# Altium footprint library KF terminal block.PcbLib: 57 footprints (part 1 of 4)
Each footprint in its own frame and in the unit in brackets; x right, y up, seen from the top. Pads: shape width x height; smd on the part's side, far side on the other; paste and mask are expansions set on the pad; w line width, h text height; cw(c..) or ccw(c..) is an arc to the next point about the centre after c.
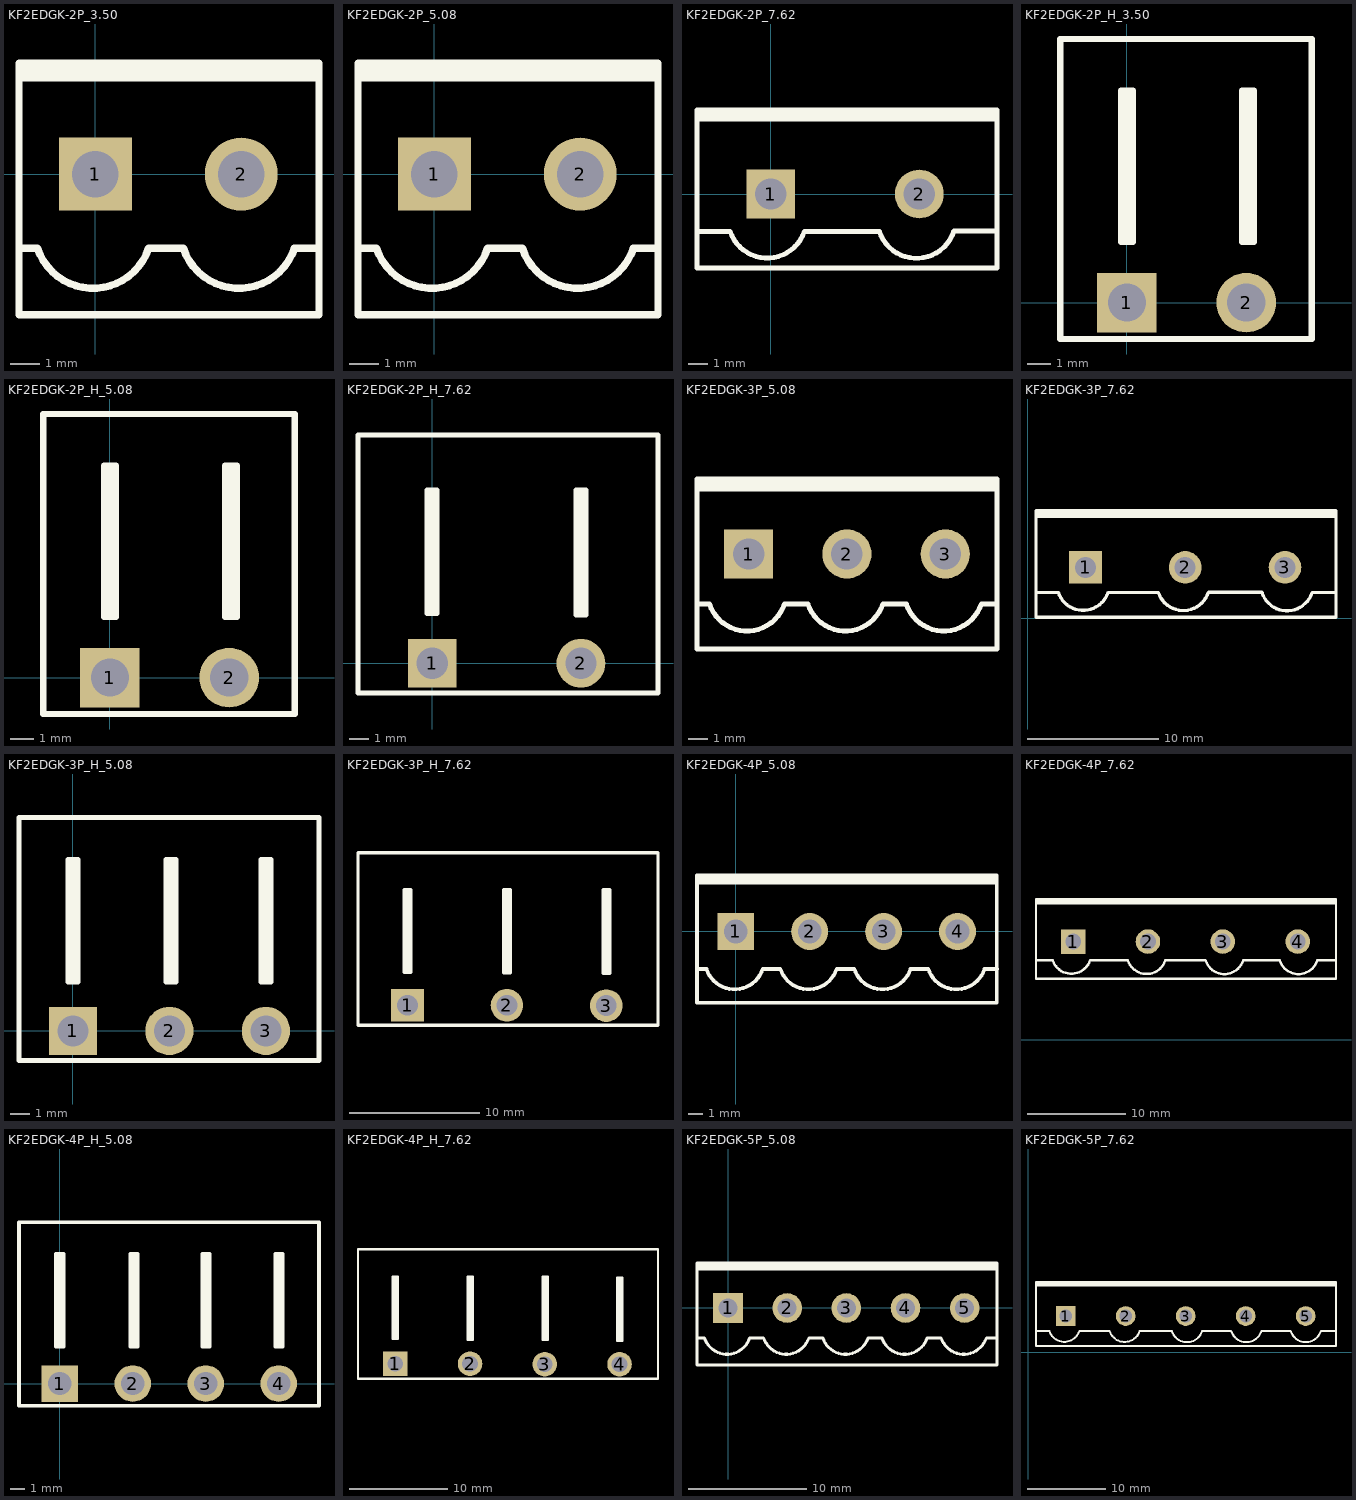
[diagram p0: the footprints below, top view; thin cyan lines are the x and y axes]

## KF2EDGK-2P_3.50 [mm] "Ö±ï¿½Ð²ï¿½ï¿½Ê½ï¿½ï¿½ï¿½ï¿½"
pads (2):
  rect 2.5x2.5 hole 1.6: 1(0,0)
  round 2.5 hole 1.6: 2(5,0)
Top Overlay:
  lines w0.254: -2.62,-2.54 -1.985,-2.54 ccw(c-0.08,-1.905) 1.825,-2.54 3.015,-2.54 ccw(c4.92,-1.905) 6.825,-2.54 7.667,-2.54 ; -2.62,3.302 7.667,3.302 ; -2.62,3.556 7.667,3.556 ; -2.62,-4.826 -2.62,3.81 7.667,3.81 7.667,-4.826 -2.62,-4.826
3D body "KF2EDGV-Y-3.50-1P.STEP": height 9.35, standoff -2.45, extent 0.125,-3.55 3.625,3.55
3D body "KF2EDGV-Y-3.50-1P.STEP": height 9.35, standoff -2.45, extent 3.625,-3.6 7.125,3.5

## KF2EDGK-2P_5.08 [mm] "Ö±ï¿½Ð²ï¿½ï¿½Ê½ï¿½ï¿½ï¿½ï¿½"
pads (2):
  rect 2.5x2.5 hole 1.6: 1(0,0)
  round 2.5 hole 1.6: 2(5,0)
Top Overlay:
  lines w0.254: -2.62,-2.54 -1.985,-2.54 ccw(c-0.08,-1.905) 1.825,-2.54 3.015,-2.54 ccw(c4.92,-1.905) 6.825,-2.54 7.667,-2.54 ; -2.62,3.302 7.667,3.302 ; -2.62,3.556 7.667,3.556 ; -2.62,-4.826 -2.62,3.81 7.667,3.81 7.667,-4.826 -2.62,-4.826
3D body "KF2EDGK-1P.STEP": height 11.25, standoff -2.95, extent -2.54,-4.75 2.54,3.75
3D body "KF2EDGK-1P.STEP": height 11.25, standoff -2.95, extent 2.46,-4.75 7.54,3.75

## KF2EDGK-2P_7.62 [mm] "Ö±ï¿½Ð²ï¿½ï¿½Ê½ï¿½ï¿½ï¿½ï¿½"
pads (2):
  rect 2.5x2.5 hole 1.6: 1(0,0)
  round 2.5 hole 1.6: 2(7.62,0)
Top Overlay:
  lines w0.254: -3.785,4.089 11.455,4.089 ; -3.759,-1.914 -2.087,-1.914 ccw(c-0.182,-1.279) 1.723,-1.914 ; -3.708,3.861 11.582,3.861 ; 1.749,-1.914 5.55,-1.925 ; 5.575,-1.925 ccw(c7.48,-1.29) 9.385,-1.925 ; 9.4,-1.9 11.6,-1.9 ; -3.785,-3.8 -3.785,4.318 11.608,4.318 11.608,-3.8 -3.785,-3.8
3D body "KF2EDGK-1P.STEP": height 12.3, standoff -2.8, extent 3.861,-3.721 11.481,4.229
3D body "KF2EDGK-1P.STEP": height 12.3, standoff -2.8, extent -3.759,-3.708 3.861,4.242

## KF2EDGK-2P_H_3.50 [mm] "ï¿½ï¿½Ç²ï¿½ï¿½Ê½ï¿½ï¿½ï¿½ï¿½"
pads (2):
  rect 2.5x2.5 hole 1.6: 1(0,0)
  round 2.5 hole 1.6: 2(5,0)
Top Overlay:
  lines w0.254: 0,2.54 0,8.89 ; 5.08,2.54 5.08,8.89 ; 0,8.89 -0.254,8.89 -0.254,2.54 0.254,2.54 0.254,8.89 0,8.89 ; 5.08,8.89 4.826,8.89 4.826,2.54 5.334,2.54 5.334,8.89 5.08,8.89 ; -2.794,-1.524 -2.794,11.049 7.747,11.049 7.747,-1.524 -2.794,-1.524
3D body "KF2EDGR-Y-3.50-1P.STEP": height 6.59, standoff -4.01, extent -0.55,-1.125 2.95,8.175
3D body "KF2EDGR-Y-3.50-1P.STEP": height 6.59, standoff -4.01, extent 2.975,-1.125 6.475,8.175

## KF2EDGK-2P_H_5.08 [mm] "ï¿½ï¿½Ç²ï¿½ï¿½Ê½ï¿½ï¿½ï¿½ï¿½"
pads (2):
  rect 2.5x2.5 hole 1.6: 1(0,0)
  round 2.5 hole 1.6: 2(5,0)
Top Overlay:
  lines w0.254: 0,2.54 0,8.89 ; 5.08,2.54 5.08,8.89 ; 0,8.89 0.254,8.89 0.254,2.54 -0.254,2.54 -0.254,8.89 0,8.89 ; 5.08,8.89 5.334,8.89 5.334,2.54 4.826,2.54 4.826,8.89 5.08,8.89 ; -2.794,-1.524 7.747,-1.524 7.747,11.049 -2.794,11.049 -2.794,-1.524
3D body "KF2EDGK-1P_H.STEP": height 8.5, standoff -3, extent 2.46,-0.5 7.54,10.8
3D body "KF2EDGK-1P_H.STEP": height 8.5, standoff -3, extent -2.54,-0.5 2.54,10.8

## KF2EDGK-2P_H_7.62 [mm] "ï¿½ï¿½Ç²ï¿½ï¿½Ê½ï¿½ï¿½ï¿½ï¿½"
pads (2):
  rect 2.5x2.5 hole 1.6: 1(0,0)
  round 2.5 hole 1.6: 2(7.625,0)
Top Overlay:
  lines w0.254: 0,2.54 0,8.89 ; 7.63,2.54 7.63,8.89 ; 0,8.89 -0.254,8.89 -0.254,2.54 0.254,2.54 0.254,8.89 0,8.89 ; 7.376,8.89 7.63,8.89 ; 7.376,8.89 7.884,8.89 ; 7.376,8.89 7.376,2.475 7.884,2.475 7.884,8.89 ; 7.63,8.89 7.884,8.89 ; -3.8,-1.524 -3.8,11.7 11.575,11.7 11.575,-1.524 -3.8,-1.524
3D body "KF2EDGK-1P-H.STEP": height 8.04, standoff -2.91, extent 3.849,-0.613 11.469,11.587
3D body "KF2EDGK-1P-H.STEP": height 8.04, standoff -2.91, extent -3.782,-0.613 3.838,11.587

## KF2EDGK-3P_5.08 [mm] "Ö±ï¿½Ð²ï¿½ï¿½Ê½ï¿½ï¿½ï¿½ï¿½"
pads (3):
  rect 2.5x2.5 hole 1.6: 1(413.85,477.95)
  round 2.5 hole 1.6: 2(418.85,477.95) 3(423.85,477.95)
Top Overlay:
  lines w0.254: 411.23,475.41 411.865,475.41 ccw(c413.77,476.045) 415.675,475.41 416.865,475.41 ccw(c418.77,476.045) 420.675,475.41 421.865,475.41 ccw(c423.77,476.045) 425.675,475.41 426.425,475.41 ; 411.23,481.252 426.425,481.252 ; 411.23,481.506 426.425,481.506 ; 411.23,473.124 426.475,473.124 426.475,481.76 411.23,481.76 411.23,473.124
3D body "KF2EDGK-1P.STEP": height 11.25, standoff -2.95, extent 411.31,473.2 416.39,481.7
3D body "KF2EDGK-1P.STEP": height 11.25, standoff -2.95, extent 416.31,473.2 421.39,481.7
3D body "KF2EDGK-1P.STEP": height 11.25, standoff -2.95, extent 421.31,473.2 426.39,481.7

## KF2EDGK-3P_7.62 [mm] "Ö±ï¿½Ð²ï¿½ï¿½Ê½ï¿½ï¿½ï¿½ï¿½"
pads (3):
  rect 2.5x2.5 hole 1.6: 1(4.425,3.875)
  round 2.5 hole 1.6: 2(12.045,3.875) 3(19.675,3.875)
Top Overlay:
  lines w0.254: 0.666,1.961 2.338,1.961 ccw(c4.243,2.596) 6.148,1.961 ; 0.675,7.761 23.525,7.761 ; 0.675,7.989 23.455,7.989 ; 6.174,1.961 9.975,1.95 ; 10,1.95 ccw(c11.905,2.585) 13.81,1.95 ; 13.825,1.975 16.025,1.975 ; 14.378,1.97 17.9,1.97 ; 17.925,1.925 ccw(c19.83,2.56) 21.735,1.925 ; 21.749,1.961 23.55,1.956 ; 0.64,0.075 0.64,8.193 23.575,8.193 23.575,0.075 0.64,0.075
3D body "KF2EDGK-1P.STEP": height 12.3, standoff -2.8, extent 8.286,0.154 15.906,8.104
3D body "KF2EDGK-1P.STEP": height 12.3, standoff -2.8, extent 0.666,0.167 8.286,8.117
3D body "KF2EDGK-1P.STEP": height 12.3, standoff -2.8, extent 15.9,0.154 23.52,8.104

## KF2EDGK-3P_H_5.08 [mm] "ï¿½ï¿½Ç²ï¿½ï¿½Ê½ï¿½ï¿½ï¿½ï¿½"
pads (3):
  rect 2.5x2.5 hole 1.6: 1(0,0)
  round 2.5 hole 1.6: 2(5,0) 3(10,0)
Top Overlay:
  lines w0.254: 0,2.54 0,8.89 ; 5.08,2.54 5.08,8.89 ; 10,2.54 10,8.89 ; 0,8.89 0.254,8.89 0.254,2.54 -0.254,2.54 -0.254,8.89 0,8.89 ; 5.08,8.89 5.334,8.89 5.334,2.54 4.826,2.54 4.826,8.89 5.08,8.89 ; 10,8.89 9.746,8.89 9.746,2.54 10.254,2.54 10.254,8.89 10,8.89 ; -2.794,-1.524 12.75,-1.524 12.75,11.049 -2.794,11.049 -2.794,-1.524
3D body "KF2EDGK-1P_H.STEP": height 8.5, standoff -3, extent 7.46,-0.5 12.54,10.8
3D body "KF2EDGK-1P_H.STEP": height 8.5, standoff -3, extent 2.46,-0.5 7.54,10.8
3D body "KF2EDGK-1P_H.STEP": height 8.5, standoff -3, extent -2.54,-0.5 2.54,10.8

## KF2EDGK-3P_H_7.62 [mm] "ï¿½ï¿½Ç²ï¿½ï¿½Ê½ï¿½ï¿½ï¿½ï¿½"
pads (3):
  rect 2.5x2.5 hole 1.6: 1(20.982,13.041)
  round 2.5 hole 1.6: 2(28.607,13.041) 3(36.232,13.016)
Top Overlay:
  lines w0.254: 20.982,15.581 20.982,21.931 ; 28.612,15.581 28.612,21.931 ; 36.257,15.559 36.257,21.909 ; 20.982,21.931 20.728,21.931 20.728,15.581 21.236,15.581 21.236,21.931 20.982,21.931 ; 28.358,21.931 28.612,21.931 ; 28.358,21.931 28.866,21.931 ; 28.358,21.931 28.358,15.516 28.866,15.516 28.866,21.931 ; 28.612,21.931 28.866,21.931 ; 36.003,21.909 36.257,21.909 ; 36.003,21.909 36.511,21.909 ; 36.003,21.909 36.003,15.494 36.511,15.494 36.511,21.909 ; 36.257,21.909 36.511,21.909 ; 17.182,11.517 17.182,24.741 40.2,24.741 40.2,11.517 17.182,11.517
3D body "KF2EDGK-1P-H.STEP": height 8.04, standoff -2.91, extent 32.447,12.417 40.067,24.617
3D body "KF2EDGK-1P-H.STEP": height 8.04, standoff -2.91, extent 17.19,12.418 24.81,24.618
3D body "KF2EDGK-1P-H.STEP": height 8.04, standoff -2.91, extent 24.822,12.417 32.442,24.617

## KF2EDGK-4P_5.08 [mm] "Ö±ï¿½Ð²ï¿½ï¿½Ê½ï¿½ï¿½ï¿½ï¿½"
pads (4):
  rect 2.5x2.5 hole 1.6: 1(0,0)
  round 2.5 hole 1.6: 2(5,0) 3(10,0) 4(15,0)
Top Overlay:
  lines w0.254: -2.62,-2.54 -1.985,-2.54 ccw(c-0.08,-1.905) 1.825,-2.54 3.015,-2.54 ccw(c4.92,-1.905) 6.825,-2.54 8.015,-2.54 ccw(c9.92,-1.905) 11.825,-2.54 13.015,-2.54 ccw(c14.92,-1.905) 16.825,-2.54 17.667,-2.54 ; -2.62,3.302 17.653,3.302 ; -2.62,3.556 17.653,3.556 ; -2.62,-4.826 17.653,-4.826 17.653,3.81 -2.62,3.81 -2.62,-4.826
3D body "KF2EDGK-1P.STEP": height 11.25, standoff -2.95, extent -2.54,-4.75 2.54,3.75
3D body "KF2EDGK-1P.STEP": height 11.25, standoff -2.95, extent 2.46,-4.75 7.54,3.75
3D body "KF2EDGK-1P.STEP": height 11.25, standoff -2.95, extent 7.46,-4.75 12.54,3.75
3D body "KF2EDGK-1P.STEP": height 11.25, standoff -2.95, extent 12.46,-4.75 17.54,3.75

## KF2EDGK-4P_7.62 [mm] "Ö±ï¿½Ð²ï¿½ï¿½Ê½ï¿½ï¿½ï¿½ï¿½"
pads (4):
  rect 2.5x2.5 hole 1.6: 1(15.075,10)
  round 2.5 hole 1.6: 2(22.695,10) 3(30.325,10) 4(37.95,10)
Top Overlay:
  lines w0.254: 11.316,8.086 12.988,8.086 ccw(c14.893,8.721) 16.798,8.086 ; 11.325,13.886 41.75,13.886 ; 11.325,14.114 41.825,14.114 ; 16.824,8.086 20.625,8.075 ; 20.65,8.075 ccw(c22.555,8.71) 24.46,8.075 ; 24.475,8.1 26.675,8.1 ; 25.028,8.095 28.55,8.095 ; 28.575,8.05 ccw(c30.48,8.685) 32.385,8.05 ; 32.399,8.086 36.1,8.075 ; 36.125,8.05 ccw(c38.03,8.685) 39.935,8.05 ; 39.945,8.085 41.75,8.08 ; 11.29,6.2 41.85,6.2 41.85,14.318 11.29,14.318 11.29,6.2
3D body "KF2EDGK-1P.STEP": height 12.3, standoff -2.8, extent 34.2,6.3 41.82,14.25
3D body "KF2EDGK-1P.STEP": height 12.3, standoff -2.8, extent 26.55,6.279 34.17,14.229
3D body "KF2EDGK-1P.STEP": height 12.3, standoff -2.8, extent 11.316,6.292 18.936,14.242
3D body "KF2EDGK-1P.STEP": height 12.3, standoff -2.8, extent 18.936,6.279 26.556,14.229

## KF2EDGK-4P_H_5.08 [mm] "ï¿½ï¿½Ç²ï¿½ï¿½Ê½ï¿½ï¿½ï¿½ï¿½"
pads (4):
  rect 2.5x2.5 hole 1.6: 1(0,0)
  round 2.5 hole 1.6: 2(5,0) 3(10,0) 4(15,0)
Top Overlay:
  lines w0.254: 0,2.54 0,8.89 ; 5.08,2.54 5.08,8.89 ; 10,2.54 10,8.89 ; 15,2.54 15,8.89 ; 0,8.89 -0.254,8.89 -0.254,2.54 0.254,2.54 0.254,8.89 0,8.89 ; 5.08,8.89 4.826,8.89 4.826,2.54 5.334,2.54 5.334,8.89 5.08,8.89 ; 10,8.89 10.254,8.89 10.254,2.54 9.746,2.54 9.746,8.89 10,8.89 ; 15,8.89 14.746,8.89 14.746,2.54 15.254,2.54 15.254,8.89 15,8.89 ; -2.794,-1.524 -2.794,11.049 17.75,11.049 17.75,-1.524 -2.794,-1.524
3D body "KF2EDGK-1P_H.STEP": height 8.5, standoff -3, extent -2.54,-0.5 2.54,10.8
3D body "KF2EDGK-1P_H.STEP": height 8.5, standoff -3, extent 2.46,-0.5 7.54,10.8
3D body "KF2EDGK-1P_H.STEP": height 8.5, standoff -3, extent 7.46,-0.5 12.54,10.8
3D body "KF2EDGK-1P_H.STEP": height 8.5, standoff -3, extent 12.46,-0.5 17.54,10.8

## KF2EDGK-4P_H_7.62 [mm] "ï¿½ï¿½Ç²ï¿½ï¿½Ê½ï¿½ï¿½ï¿½ï¿½"
pads (4):
  rect 2.5x2.5 hole 1.6: 1(6.252,16.611)
  round 2.5 hole 1.6: 2(13.877,16.611) 3(21.502,16.586) 4(29.127,16.586)
Top Overlay:
  lines w0.254: 6.252,19.151 6.252,25.501 ; 13.882,19.151 13.882,25.501 ; 21.527,19.129 21.527,25.479 ; 29.127,19.054 29.127,25.404 ; 6.252,25.501 6.506,25.501 6.506,19.151 5.998,19.151 5.998,25.501 6.252,25.501 ; 13.628,25.501 13.628,19.086 14.136,19.086 14.136,25.501 ; 13.628,25.501 14.136,25.501 ; 13.628,25.501 13.882,25.501 ; 13.882,25.501 14.136,25.501 ; 21.273,25.479 21.273,19.064 21.781,19.064 21.781,25.479 ; 21.273,25.479 21.781,25.479 ; 21.273,25.479 21.527,25.479 ; 21.527,25.479 21.781,25.479 ; 28.873,25.404 28.873,18.989 29.381,18.989 29.381,25.404 ; 28.873,25.404 29.381,25.404 ; 28.873,25.404 29.127,25.404 ; 29.127,25.404 29.381,25.404 ; 2.452,15.087 33.05,15.087 33.05,28.311 2.452,28.311 2.452,15.087
3D body "KF2EDGK-1P-H.STEP": height 8.04, standoff -2.91, extent 25.296,15.981 32.916,28.181
3D body "KF2EDGK-1P-H.STEP": height 8.04, standoff -2.91, extent 17.671,15.981 25.291,28.181
3D body "KF2EDGK-1P-H.STEP": height 8.04, standoff -2.91, extent 2.415,15.981 10.035,28.181
3D body "KF2EDGK-1P-H.STEP": height 8.04, standoff -2.91, extent 10.046,15.981 17.666,28.181

## KF2EDGK-5P_5.08 [mm] "Ö±ï¿½Ð²ï¿½ï¿½Ê½ï¿½ï¿½ï¿½ï¿½"
pads (5):
  rect 2.5x2.5 hole 1.6: 1(0,0)
  round 2.5 hole 1.6: 2(5,0) 3(10,0) 4(15,0) 5(20,0)
Top Overlay:
  lines w0.254: -2.62,-2.54 -1.985,-2.54 ccw(c-0.08,-1.905) 1.825,-2.54 3.015,-2.54 ccw(c4.92,-1.905) 6.825,-2.54 8.015,-2.54 ccw(c9.92,-1.905) 11.825,-2.54 13.015,-2.54 ccw(c14.92,-1.905) 16.825,-2.54 18.015,-2.54 ccw(c19.92,-1.905) 21.825,-2.54 22.667,-2.54 ; -2.62,3.302 22.606,3.302 ; -2.62,3.556 22.733,3.556 ; -2.62,-4.826 -2.62,3.81 22.733,3.81 22.733,-4.826 -2.62,-4.826
3D body "KF2EDGK-1P.STEP": height 11.25, standoff -2.95, extent -2.54,-4.75 2.54,3.75
3D body "KF2EDGK-1P.STEP": height 11.25, standoff -2.95, extent 2.46,-4.75 7.54,3.75
3D body "KF2EDGK-1P.STEP": height 11.25, standoff -2.95, extent 7.46,-4.75 12.54,3.75
3D body "KF2EDGK-1P.STEP": height 11.25, standoff -2.95, extent 12.46,-4.75 17.54,3.75
3D body "KF2EDGK-1P.STEP": height 11.25, standoff -2.95, extent 17.46,-4.75 22.54,3.75

## KF2EDGK-5P_7.62 [mm] "Ö±ï¿½Ð²ï¿½ï¿½Ê½ï¿½ï¿½ï¿½ï¿½"
pads (5):
  rect 2.5x2.5 hole 1.6: 1(4.8,4.625)
  round 2.5 hole 1.6: 2(12.42,4.625) 3(20.05,4.625) 4(27.675,4.625) 5(35.3,4.625)
Top Overlay:
  lines w0.254: 1.041,2.711 2.713,2.711 ccw(c4.618,3.346) 6.523,2.711 ; 1.05,8.511 39.05,8.511 ; 1.05,8.739 39.1,8.739 ; 6.549,2.711 10.35,2.7 ; 10.375,2.7 ccw(c12.28,3.335) 14.185,2.7 ; 14.2,2.725 16.4,2.725 ; 14.753,2.72 18.275,2.72 ; 18.3,2.675 ccw(c20.205,3.31) 22.11,2.675 ; 22.124,2.711 25.825,2.7 ; 25.85,2.675 ccw(c27.755,3.31) 29.66,2.675 ; 29.67,2.71 31.475,2.705 ; 29.678,2.72 33.379,2.71 ; 33.404,2.684 ccw(c35.309,3.319) 37.214,2.684 ; 37.224,2.719 39.029,2.714 ; 1.015,0.825 1.015,8.943 39.15,8.943 39.15,0.825 1.015,0.825
3D body "KF2EDGK-1P.STEP": height 12.3, standoff -2.8, extent 31.55,0.925 39.17,8.875
3D body "KF2EDGK-1P.STEP": height 12.3, standoff -2.8, extent 8.661,0.904 16.281,8.854
3D body "KF2EDGK-1P.STEP": height 12.3, standoff -2.8, extent 1.041,0.917 8.661,8.867
3D body "KF2EDGK-1P.STEP": height 12.3, standoff -2.8, extent 16.275,0.904 23.895,8.854
3D body "KF2EDGK-1P.STEP": height 12.3, standoff -2.8, extent 23.925,0.925 31.545,8.875